# Altium schematic symbol library CAP,Alum,100uF,100VDC,SMD.Schlib: 1 symbol
Pins are listed as number, name and electrical type; pins without a type are passive.

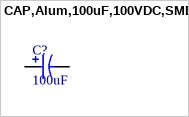
[diagram p0: symbol CAP,Alum,100uF,100VDC,SMD]

## CAP,Alum,100uF,100VDC,SMD
designator C?, comment 100uF
100µF 100V Aluminum Electrolytic Capacitors Radial, Can - SMD  5000 Hrs @ 105°C
pins: 1, 2